# Altium integrated library Integrated_Library1.IntLib: 2 symbols
Pins are listed as number, name and electrical type; pins without a type are passive.

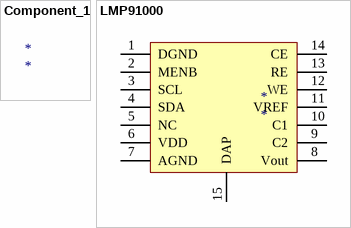
[diagram p0: symbols Component_1 to LMP91000]

## Component_1
designator *

## LMP91000
designator *
footprint WSON14
pins: 1 DGND, 2 MENB, 3 SCL, 4 SDA, 5 NC, 6 VDD, 7 AGND, 8 Vout, 9 C2, 10 C1, 11 VREF, 12 WE, 13 RE, 14 CE, 15 DAP